# Altium integrated library WA-SMSE_rev15a.intlib: 11 symbols
Pins are listed as number, name and electrical type; pins without a type are passive.

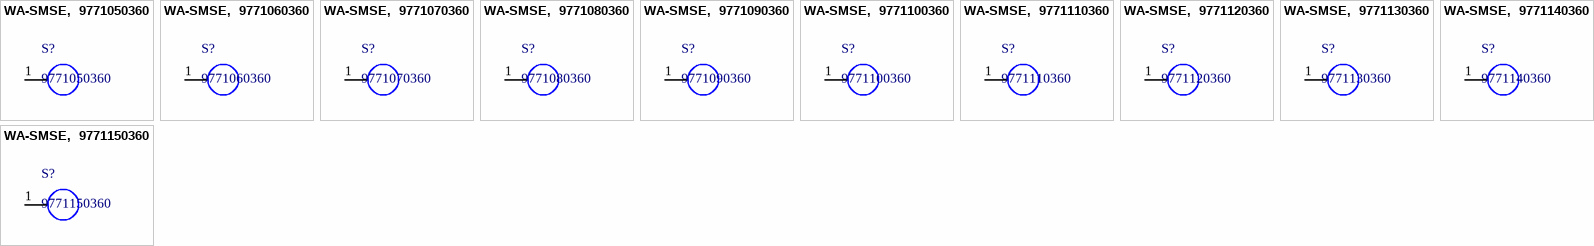
[diagram p0: symbols WA-SMSE,  9771050360 to WA-SMSE,  9771150360]

## WA-SMSE,  9771050360
designator S?, comment 9771050360
WA-SMSE SMD Steel Spacer with external Thread; Manufacturer: Wurth Elektronik; partNo: 9771050360; ComponentLink1Description: Manufacturer; ComponentLink1URL: http://www.we-online.de; Created by: Baojun Chen; Created Date: 19.Oct.2015; ComponentLink2Description: Datasheet; ComponentLink2URL: http://katalog.we-online.de/em/datasheet/9771050360.pdf
footprint 9771050360 (WA-SMSE SMD Steel Spacer, M3 Thread External)
pins: 1

## WA-SMSE,  9771060360
designator S?, comment 9771060360
WA-SMSE SMD Steel Spacer with external Thread; Manufacturer: Wurth Elektronik; partNo: 9771060360; ComponentLink1Description: Manufacturer; ComponentLink1URL: http://www.we-online.de; Created by: Baojun Chen; Created Date: 19.Oct.2015; ComponentLink2Description: Datasheet; ComponentLink2URL: http://katalog.we-online.de/em/datasheet/9771060360.pdf
footprint 9771060360 (WA-SMSE SMD Steel Spacer, M3 Thread External)
pins: 1

## WA-SMSE,  9771070360
designator S?, comment 9771070360
WA-SMSE SMD Steel Spacer with external Thread; Manufacturer: Wurth Elektronik; partNo: 9771070360; ComponentLink1Description: Manufacturer; ComponentLink1URL: http://www.we-online.de; Created by: Baojun Chen; Created Date: 19.Oct.2015; ComponentLink2Description: Datasheet; ComponentLink2URL: http://katalog.we-online.de/em/datasheet/9771070360.pdf
footprint 9771070360 (WA-SMSE SMD Steel Spacer, M3 Thread External)
pins: 1

## WA-SMSE,  9771080360
designator S?, comment 9771080360
WA-SMSE SMD Steel Spacer with external Thread; Manufacturer: Wurth Elektronik; partNo: 9771080360; ComponentLink1Description: Manufacturer; ComponentLink1URL: http://www.we-online.de; Created by: Baojun Chen; Created Date: 19.Oct.2015; ComponentLink2Description: Datasheet; ComponentLink2URL: http://katalog.we-online.de/em/datasheet/9771080360.pdf
footprint 9771080360 (WA-SMSE SMD Steel Spacer, M3 Thread External)
pins: 1

## WA-SMSE,  9771090360
designator S?, comment 9771090360
WA-SMSE SMD Steel Spacer with external Thread; Manufacturer: Wurth Elektronik; partNo: 9771090360; ComponentLink1Description: Manufacturer; ComponentLink1URL: http://www.we-online.de; Created by: Baojun Chen; Created Date: 19.Oct.2015; ComponentLink2Description: Datasheet; ComponentLink2URL: http://katalog.we-online.de/em/datasheet/9771090360.pdf
footprint 9771090360 (WA-SMSE SMD Steel Spacer, M3 Thread External)
pins: 1

## WA-SMSE,  9771100360
designator S?, comment 9771100360
WA-SMSE SMD Steel Spacer with external Thread; Manufacturer: Wurth Elektronik; partNo: 9771100360; ComponentLink1Description: Manufacturer; ComponentLink1URL: http://www.we-online.de; Created by: Baojun Chen; Created Date: 19.Oct.2015; ComponentLink2Description: Datasheet; ComponentLink2URL: http://katalog.we-online.de/em/datasheet/9771100360.pdf
footprint 9771100360 (WA-SMSE SMD Steel Spacer, M3 Thread External)
pins: 1

## WA-SMSE,  9771110360
designator S?, comment 9771110360
WA-SMSE SMD Steel Spacer with external Thread; Manufacturer: Wurth Elektronik; partNo: 9771110360; ComponentLink1Description: Manufacturer; ComponentLink1URL: http://www.we-online.de; Created by: Baojun Chen; Created Date: 19.Oct.2015; ComponentLink2Description: Datasheet; ComponentLink2URL: http://katalog.we-online.de/em/datasheet/9771110360.pdf
footprint 9771110360 (WA-SMSE SMD Steel Spacer, M3 Thread External)
pins: 1

## WA-SMSE,  9771120360
designator S?, comment 9771120360
WA-SMSE SMD Steel Spacer with external Thread; Manufacturer: Wurth Elektronik; partNo: 9771120360; ComponentLink1Description: Manufacturer; ComponentLink1URL: http://www.we-online.de; Created by: Baojun Chen; Created Date: 19.Oct.2015; ComponentLink2Description: Datasheet; ComponentLink2URL: http://katalog.we-online.de/em/datasheet/9771120360.pdf
footprint 9771120360 (WA-SMSE SMD Steel Spacer, M3 Thread External)
pins: 1

## WA-SMSE,  9771130360
designator S?, comment 9771130360
WA-SMSE SMD Steel Spacer with external Thread; Manufacturer: Wurth Elektronik; partNo: 9771130360; ComponentLink1Description: Manufacturer; ComponentLink1URL: http://www.we-online.de; Created by: Baojun Chen; Created Date: 19.Oct.2015; ComponentLink2Description: Datasheet; ComponentLink2URL: http://katalog.we-online.de/em/datasheet/9771130360.pdf
footprint 9771130360 (WA-SMSE SMD Steel Spacer, M3 Thread External)
pins: 1

## WA-SMSE,  9771140360
designator S?, comment 9771140360
WA-SMSE SMD Steel Spacer with external Thread; Manufacturer: Wurth Elektronik; partNo: 9771140360; ComponentLink1Description: Manufacturer; ComponentLink1URL: http://www.we-online.de; Created by: Baojun Chen; Created Date: 19.Oct.2015; ComponentLink2Description: Datasheet; ComponentLink2URL: http://katalog.we-online.de/em/datasheet/9771140360.pdf
footprint 9771140360 (WA-SMSE SMD Steel Spacer, M3 Thread External)
pins: 1

## WA-SMSE,  9771150360
designator S?, comment 9771150360
WA-SMSE SMD Steel Spacer with external Thread; Manufacturer: Wurth Elektronik; partNo: 9771150360; ComponentLink1Description: Manufacturer; ComponentLink1URL: http://www.we-online.de; Created by: Baojun Chen; Created Date: 19.Oct.2015; ComponentLink2Description: Datasheet; ComponentLink2URL: http://katalog.we-online.de/em/datasheet/9771150360.pdf
footprint 9771150360 (WA-SMSE SMD Steel Spacer, M3 Thread External)
pins: 1